# Altium footprint library e-VEREST.PcbLib: 32 footprints (part 2 of 2)
Each footprint in its own frame and in the unit in brackets; x right, y up, seen from the top. Pads: shape width x height; smd on the part's side, far side on the other; paste and mask are expansions set on the pad; w line width, h text height; cw(c..) or ccw(c..) is an arc to the next point about the centre after c.
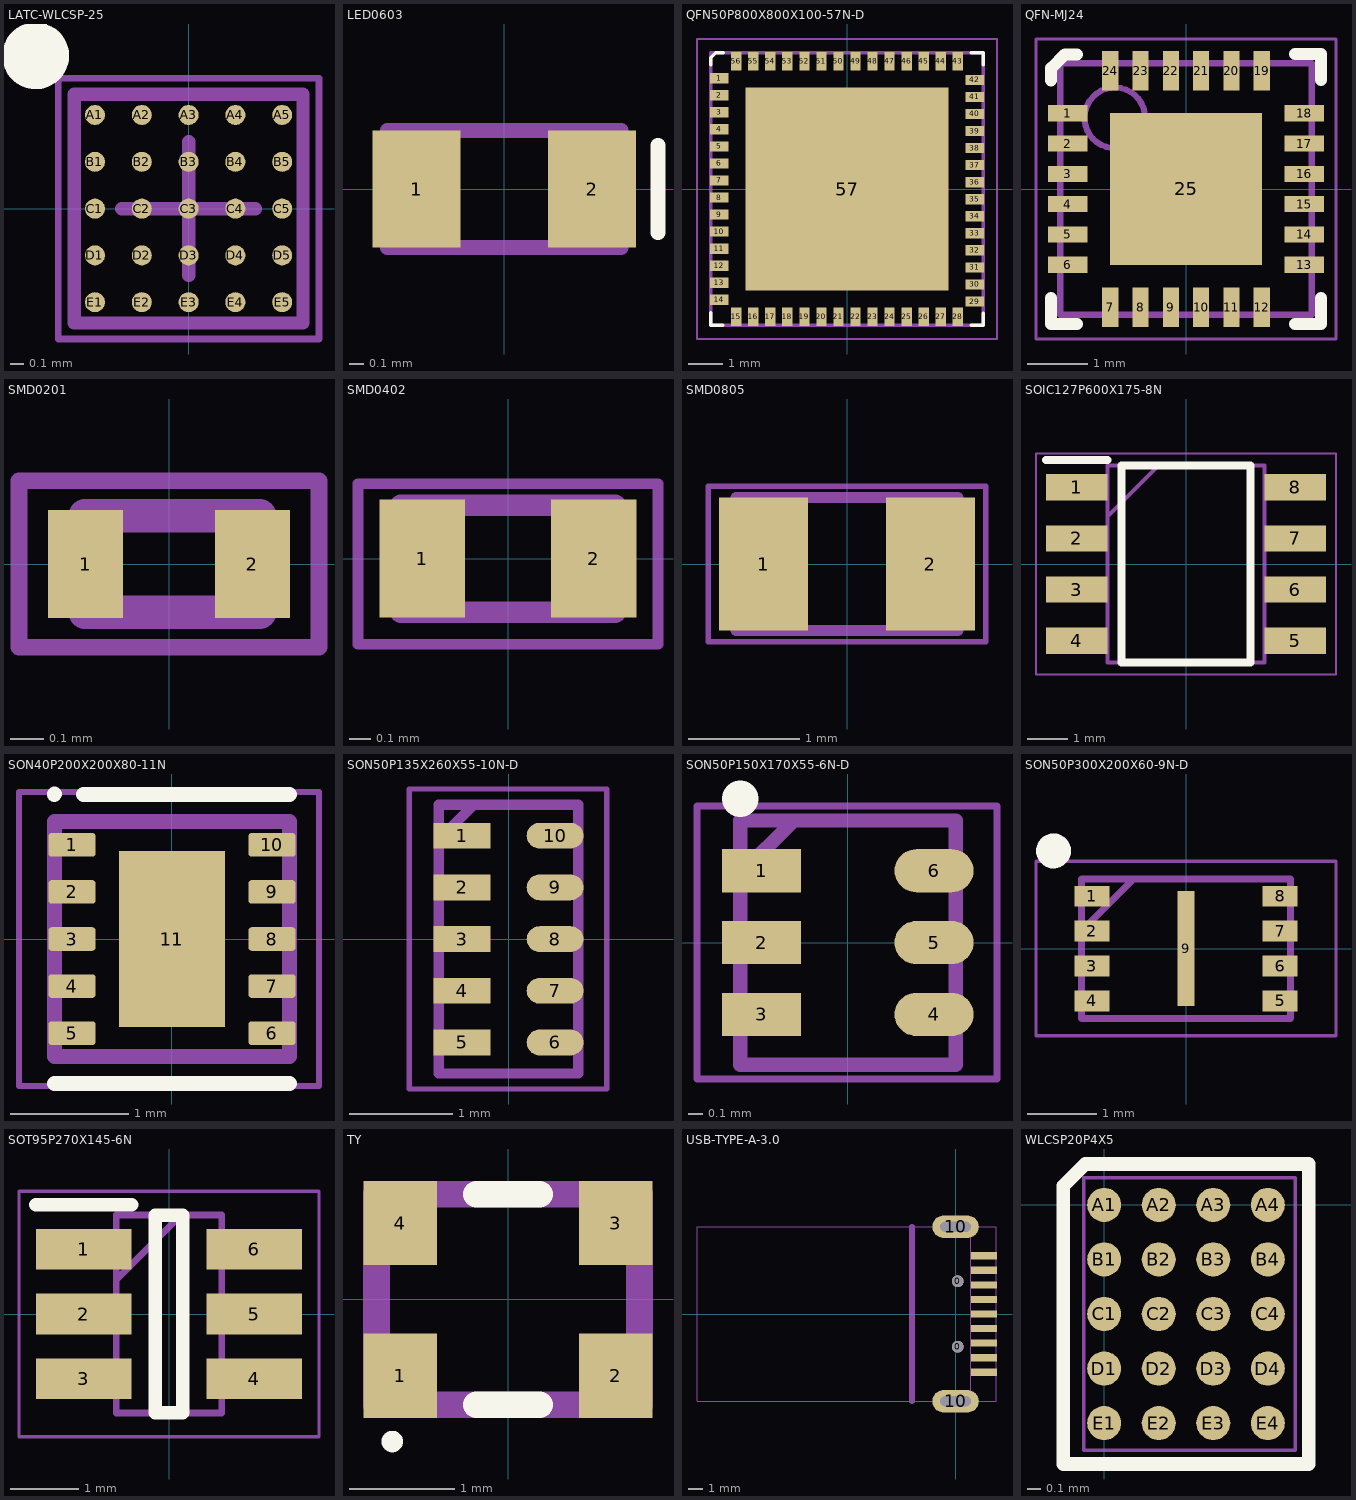
[diagram p1: the footprints below, top view; thin cyan lines are the x and y axes]

## LATC-WLCSP-25 [mm] "BGA, 25-Balls, Body 1.71x1.71mm, Pitch 0.35mm"
height 0.5
pads (25):
  round 0.15 smd: A1(-0.7,0.7) A2(-0.35,0.7) A3(0,0.7) A4(0.35,0.7) A5(0.7,0.7) B1(-0.7,0.35) B2(-0.35,0.35) B3(0,0.35) B4(0.35,0.35) B5(0.7,0.35) C1(-0.7,0) C2(-0.35,0) C3(0,0) C4(0.35,0) C5(0.7,0) D1(-0.7,-0.35) D2(-0.35,-0.35) D3(0,-0.35) D4(0.35,-0.35) D5(0.7,-0.35) E1(-0.7,-0.7) E2(-0.35,-0.7) E3(0,-0.7) E4(0.35,-0.7) E5(0.7,-0.7)
Top Overlay:
  circle w0.25: c-1.143,1.143 r0.125
Mechanical 13:
  lines w0.1: -0.855,-0.855 -0.855,0.855 0.855,0.855 0.855,-0.855 -0.855,-0.855
Mechanical 15:
  lines w0.05: -0.975,-0.975 -0.975,0.975 0.975,0.975 0.975,-0.975 -0.975,-0.975
  lines w0.1: -0.5,0 0.5,0 ; 0,-0.5 0,0.5
3D body: height 0.5, standoff 0, extent -1.393,-1 1,1.393

## LED0603 [mm]
pads (2):
  rect 0.6x0.8 smd: 1(-0.6,0) 2(0.6,0)
Top Overlay:
  lines w0.1: 1.05,-0.3 1.05,0.3
Mechanical 13:
  lines w0.1: -0.8,-0.4 -0.8,0.4 0.8,0.4 0.8,-0.4 -0.8,-0.4
Mechanical 15:
  lines w0.05: -0.8,-0.4 -0.8,0.4 0.8,0.4 0.8,-0.4 -0.8,-0.4
3D body: height 0.65, standoff 0, extent -0.8,-0.4 0.8,0.4

## QFN50P800X800X100-57N-D [mm]
pads (57):
  rect 0.55x0.3 smd: 1(-3.75,3.25) 2(-3.75,2.75) 3(-3.75,2.25) 4(-3.75,1.75) 5(-3.75,1.25) 6(-3.75,0.75) 7(-3.75,0.25) 8(-3.75,-0.25) 9(-3.75,-0.75) 10(-3.75,-1.25) 11(-3.75,-1.75) 12(-3.75,-2.25) 13(-3.75,-2.75) 14(-3.75,-3.25) 29(3.75,-3.3) 30(3.75,-2.8) 31(3.75,-2.3) 32(3.75,-1.8) 33(3.75,-1.3) 34(3.75,-0.8) 35(3.75,-0.3) 36(3.75,0.2) 37(3.75,0.7) 38(3.75,1.2) 39(3.75,1.7) 40(3.75,2.2) 41(3.75,2.7) 42(3.75,3.2)
  rect 0.3x0.55 smd: 15(-3.25,-3.75) 16(-2.75,-3.75) 17(-2.25,-3.75) 18(-1.75,-3.75) 19(-1.25,-3.75) 20(-0.75,-3.75) 21(-0.25,-3.75) 22(0.25,-3.75) 23(0.75,-3.75) 24(1.25,-3.75) 25(1.75,-3.75) 26(2.25,-3.75) 27(2.75,-3.75) 28(3.25,-3.75) 43(3.25,3.75) 44(2.75,3.75) 45(2.25,3.75) 46(1.75,3.75) 47(1.25,3.75) 48(0.75,3.75) 49(0.25,3.75) 50(-0.25,3.75) 51(-0.75,3.75) 52(-1.25,3.75) 53(-1.75,3.75) 54(-2.25,3.75) 55(-2.75,3.75) 56(-3.25,3.75)
  rect 5.95x5.95 smd: 57(0,0)
Top Overlay:
  lines w0.1: -4,3.641 -4,3.847 -3.847,4 -3.636,4 ; -3.996,-3.634 -3.996,-3.998 -3.637,-3.998 ; 3.637,-4.001 4.001,-4.001 4.001,-3.642 ; 3.641,4.001 4,4.001 4,3.637
Mechanical 13:
  lines w0.1: -4,-4 4,-4 4,4 -4,4 -4,-4
Mechanical 15:
  lines w0.05: -4.4,-4.4 4.4,-4.4 4.4,4.4 -4.4,4.4 -4.4,-4.4
3D body: height 0.8, standoff 0, extent -4,-4 4,4

## QFN-MJ24 [mm] "QFN, 24-Leads, Body 4x4mm, Pitch 0.5mm, Microchip Recommended"
height 0.9
pads (25):
  rect 0.65x0.265 smd: 1(-1.95,1.25) 2(-1.95,0.75) 3(-1.95,0.25) 4(-1.95,-0.25) 5(-1.95,-0.75) 6(-1.95,-1.25) 13(1.95,-1.25) 14(1.95,-0.75) 15(1.95,-0.25) 16(1.95,0.25) 17(1.95,0.75) 18(1.95,1.25)
  rect 0.265x0.65 smd: 7(-1.25,-1.95) 8(-0.75,-1.95) 9(-0.25,-1.95) 10(0.25,-1.95) 11(0.75,-1.95) 12(1.25,-1.95) 19(1.25,1.95) 20(0.75,1.95) 21(0.25,1.95) 22(-0.25,1.95) 23(-0.75,1.95) 24(-1.25,1.95)
  rect 2.5x2.5 smd paste-1.3: 25(0,0)
Top Overlay:
  lines w0.2: -2.225,-1.8 -2.225,-2.225 -1.8,-2.225 ; -2.225,1.793 -2.225,1.932 -2.225,1.995 -1.998,2.222 -1.8,2.222 ; 1.8,-2.225 2.225,-2.225 2.225,-1.8 ; 1.8,2.225 2.225,2.225 2.225,1.8
Top Paste:
  rectangle: 0.1,-1.2 1.2,-0.1
  region: -0.1,-0.1 -1.2,-0.1 -1.2,-1.2 -0.1,-1.2
  region: -0.1,1.2 -1.2,1.2 -1.2,0.1 -0.1,0.1
  rectangle: 0.1,0.1 1.2,1.2
Mechanical 13:
  circle w0.1: c-1.175,1.175 r0.5
  lines w0.1: -2.075,-2.075 -2.075,2.075 2.075,2.075 2.075,-2.075 -2.075,-2.075
Mechanical 15:
  lines w0.05: -2.475,-2.475 2.475,-2.475 2.475,2.475 -2.475,2.475 -2.475,-2.475
  lines w0.1: -0.5,0 0.5,0 ; 0,-0.5 0,0.5
3D body: height 0.9, standoff 0, extent -2.074,-2.074 2.074,2.074

## SMD0201 [mm]
pads (2):
  rect 0.225x0.325 smd: 1(-0.25,0) 2(0.25,0)
Mechanical 13:
  lines w0.1: -0.252,-0.145 -0.252,0.145 0.272,0.145 0.272,-0.145 -0.252,-0.145
Mechanical 15:
  lines w0.05: -0.45,-0.25 -0.45,0.25 0.45,0.25 0.45,-0.25 -0.45,-0.25
3D body "CPF0201D100RE1.stp": height 0.28, standoff 0, extent -0.29,-0.145 0.29,0.145

## SMD0402 [mm]
pads (2):
  rect 0.4x0.55 smd: 1(-0.4,0) 2(0.4,0)
Mechanical 13:
  lines w0.1: -0.5,-0.25 -0.5,0.25 0.5,0.25 0.5,-0.25 -0.5,-0.25
Mechanical 15:
  lines w0.05: -0.7,-0.4 -0.7,0.35 0.7,0.35 0.7,-0.4 -0.7,-0.4
3D body "BLM15AX601SN1D.stp": height 0.55, standoff 0, extent -0.5,-0.25 0.5,0.25

## SMD0805 [mm]
pads (2):
  rect 0.8x1.2 smd: 1(-0.75,0) 2(0.75,0)
Mechanical 13:
  lines w0.1: -1,-0.6 -1,0.6 1,0.6 1,-0.6 -1,-0.6
Mechanical 15:
  lines w0.05: -1.25,-0.7 -1.25,0.7 1.25,0.7 1.25,-0.7 -1.25,-0.7
3D body "74479775147.stp": height 1, standoff 0, extent -1,-0.6 1,0.6

## SOIC127P600X175-8N [mm]
pads (8):
  rect 1.525x0.65 smd: 1(-2.712,1.905) 2(-2.712,0.635) 3(-2.712,-0.635) 4(-2.712,-1.905) 5(2.712,-1.905) 6(2.712,-0.635) 7(2.712,0.635) 8(2.712,1.905)
Top Overlay:
  lines w0.2: -3.475,2.58 -1.95,2.58 ; -1.6,-2.45 1.6,-2.45 1.6,2.45 -1.6,2.45 -1.6,-2.45
Mechanical 13:
  lines w0.1: -1.95,1.18 -0.68,2.45 ; -1.95,-2.45 1.95,-2.45 1.95,2.45 -1.95,2.45 -1.95,-2.45
Mechanical 15:
  lines w0.05: -3.725,-2.75 3.725,-2.75 3.725,2.75 -3.725,2.75 -3.725,-2.75
3D body "NE555DR.stp": height 1.75, standoff 0, extent -3,-2.45 3,2.45

## SON40P200X200X80-11N [mm]
pads (11):
  rrect25% 0.4x0.2 smd: 1(-0.85,0.8) 2(-0.85,0.4) 3(-0.85,0) 4(-0.85,-0.4) 5(-0.85,-0.8) 6(0.85,-0.8) 7(0.85,-0.4) 8(0.85,0) 9(0.85,0.4) 10(0.85,0.8)
  rect 0.9x1.5 smd paste-2: 11(0,0)
Top Overlay:
  lines w0.127: -1,1.23 -1,1.231 ; -1,-1.23 1,-1.23 ; -0.75,1.23 1,1.23
Mechanical 13:
  lines w0.127: -1,-1 1,-1 1,1 -1,1 -1,-1
Mechanical 15:
  lines w0.05: -1.3,-1.25 -1.3,1.25 1.25,1.25 1.25,-1.25 -1.3,-1.25
3D body "step_temp.STEP": height 0.8, standoff 0, extent -1,-1 1,1

## SON50P135X260X55-10N-D [mm]
pads (10):
  rect 0.55x0.25 smd: 1(-0.45,1) 2(-0.45,0.5) 3(-0.45,0) 4(-0.45,-0.5) 5(-0.45,-1)
  oval 0.55x0.25 smd: 6(0.45,-1) 7(0.45,-0.5) 8(0.45,0) 9(0.45,0.5) 10(0.45,1)
Mechanical 13:
  lines w0.1: -0.675,0.962 -0.338,1.3 ; -0.675,-1.3 -0.675,1.3 0.675,1.3 0.675,-1.3 -0.675,-1.3
Mechanical 15:
  lines w0.05: -0.961,-1.45 -0.961,1.452 0.95,1.452 0.95,-1.45 -0.961,-1.45
3D body "ECMF04-4HSWM10.stp": height 0.55, standoff 0, extent -0.725,-1.3 0.725,1.3

## SON50P150X170X55-6N-D [mm]
pads (6):
  rect 0.55x0.3 smd: 1(-0.6,0.5) 2(-0.6,0) 3(-0.6,-0.5)
  oval 0.55x0.3 smd: 4(0.6,-0.5) 5(0.6,0) 6(0.6,0.5)
Top Overlay:
  lines w0.254: -0.75,1 -0.75,1
Mechanical 13:
  lines w0.1: -0.75,0.475 -0.375,0.85 ; -0.75,-0.85 -0.75,0.85 0.75,0.85 0.75,-0.85 -0.75,-0.85
Mechanical 15:
  lines w0.05: -1.05,-0.95 -1.05,0.95 1.038,0.95 1.038,-0.95 -1.05,-0.95
3D body "ECMF02-2AMX6.stp": height 0.55, standoff 0, extent -0.8,-0.85 0.8,0.85

## SON50P300X200X60-9N-D [mm]
pads (9):
  rect 0.5x0.3 smd: 1(-1.35,0.75) 2(-1.35,0.25) 3(-1.35,-0.25) 4(-1.35,-0.75) 5(1.35,-0.75) 6(1.35,-0.25) 7(1.35,0.25) 8(1.35,0.75)
  rect 0.25x1.65 smd: 9(0,0)
Top Overlay:
  circle w0.25: c-1.9,1.4 r0.125
Mechanical 13:
  lines w0.1: -1.5,0.25 -0.75,1 ; -1.5,-1 -1.5,1 1.5,1 1.5,-1 -1.5,-1
Mechanical 15:
  lines w0.05: -2.15,-1.25 -2.15,1.25 2.15,1.25 2.15,-1.25 -2.15,-1.25
3D body "AT25SF081-MAHD-T.stp": height 0.6, standoff 0, extent -1.55,-1 1.55,1

## SOT95P270X145-6N [mm]
pads (6):
  rect 1.4x0.6 smd: 1(-1.25,0.95) 2(-1.25,0) 3(-1.25,-0.95) 4(1.25,-0.95) 5(1.25,0) 6(1.25,0.95)
Top Overlay:
  lines w0.2: -1.95,1.6 -0.55,1.6 ; -0.2,-1.45 0.2,-1.45 0.2,1.45 -0.2,1.45 -0.2,-1.45
Mechanical 13:
  lines w0.1: -0.775,0.5 0.175,1.45 ; -0.775,-1.45 0.775,-1.45 0.775,1.45 -0.775,1.45 -0.775,-1.45
Mechanical 15:
  lines w0.05: -2.2,-1.8 2.2,-1.8 2.2,1.8 -2.2,1.8 -2.2,-1.8
3D body "93LC46AT-I_OT.stp": height 1.45, standoff 0, extent -1.35,-1.45 1.35,1.45

## TY [mm]
pads (4):
  rect 0.7x0.8 smd: 1(-1.025,-0.725) 2(1.025,-0.725) 3(1.025,0.725) 4(-1.025,0.725)
Top Overlay:
  circle w0.1: c-1.1,-1.35 r0.052
  lines w0.254: -0.3,-1 0.3,-1 ; -0.3,1 0.3,1
Mechanical 13:
  lines w0.254: -1.25,-1 -1.25,1 1.25,1 1.25,-1 -1.25,-1
Mechanical 15:
  lines w0.1: -1.25,-1 1.25,-1 1.25,1 -1.25,1 -1.25,-1
3D body: height 0.7, standoff 0, extent -1.249,-0.999 1.249,0.999

## USB-TYPE-A-3.0 [mm]
pads (13):
  round 0.8 hole 0.8 unplated: 0(0.15,-2.25) 0(0.15,2.25)
  rect 1.8x0.5 smd: 1(1.95,-4) 2(1.95,-3) 3(1.95,-2) 4(1.95,-1) 5(1.95,0) 6(1.95,1) 7(1.95,2) 8(1.95,3) 9(1.95,4)
  oval 3.2x1.55 hole 0.7 slot 2.1 at 0 deg: 10(0,-6) 10(0,6)
Mechanical 4:
  lines w0.05: -17.776,-6 -17.776,6 2.8,6 2.8,-6 -17.776,-6
  lines w0.4: -3,-6 -3,6
  text "PCB Edge" at -3.9,-4.4 h1.97
Mechanical 15:
  lines w0.05: -17.776,-6 -17.776,6 1.05,6 1.05,-6 -17.776,-6
3D body "692112030100.stp": height 1.76, standoff -2.74, extent -17.95,-6 2.804,6

## WLCSP20P4X5 [mm]
pads (20):
  round 0.25 smd: A1(0,0) A2(0.4,0) A3(0.8,0) A4(1.2,0) B1(0,-0.4) B2(0.4,-0.4) B3(0.8,-0.4) B4(1.2,-0.4) C1(0,-0.8) C2(0.4,-0.8) C3(0.8,-0.8) C4(1.2,-0.8) D1(0,-1.2) D2(0.4,-1.2) D3(0.8,-1.2) D4(1.2,-1.2) E1(0,-1.6) E2(0.4,-1.6) E3(0.8,-1.6) E4(1.2,-1.6)
Top Overlay:
  lines w0.1: -0.3,-1.9 -0.3,0.139 -0.139,0.3 1.5,0.3 1.5,-1.9 -0.3,-1.9
Mechanical 15:
  lines w0.025: -0.15,-1.8 1.4,-1.8 1.4,0.2 -0.15,0.2 -0.15,-1.8
3D body: height 0.56, standoff 0, extent -0.15,-1.801 1.402,0.197